# Altium footprint library DVI-I-V.PcbLib: 1 footprints
Each footprint in its own frame and in the unit in brackets; x right, y up, seen from the top. Pads: shape width x height; smd on the part's side, far side on the other; paste and mask are expansions set on the pad; w line width, h text height; cw(c..) or ccw(c..) is an arc to the next point about the centre after c.
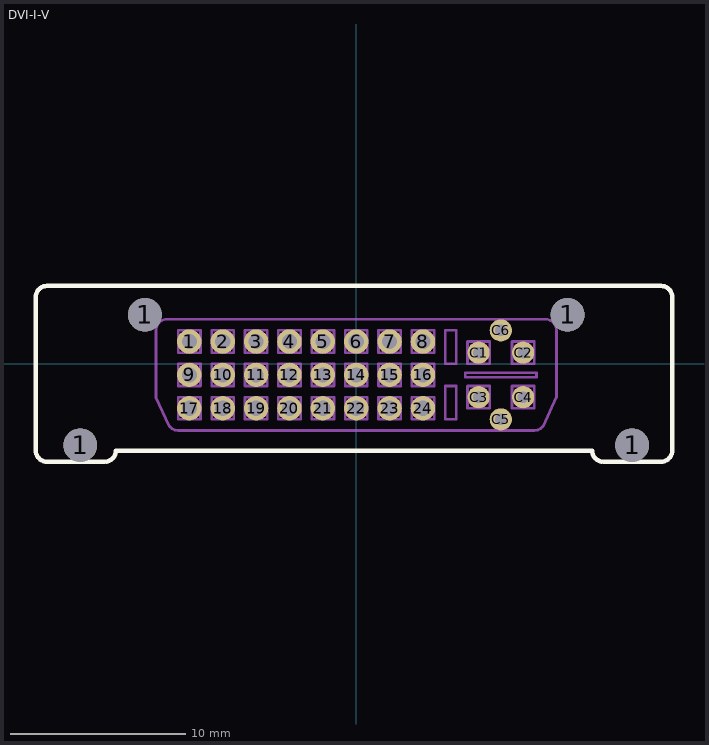
[diagram p0: the footprint, top view; thin cyan lines are the x and y axes]

## DVI-I-V [mil]
pads (34):
  round 76 hole 76: 1(-620,-183) 1(-475,110) 1(475,110) 1(620,-183)
  round 55 hole 34: 1(-375,50) 2(-300,50) 3(-225,50) 4(-150,50) 5(-75,50) 6(0,50) 7(75,50) 8(150,50) 9(-375,-25) 10(-300,-25) 11(-225,-25) 12(-150,-25) 13(-75,-25) 14(0,-25) 15(75,-25) 16(150,-25) 17(-375,-100) 18(-300,-100) 19(-225,-100) 20(-150,-100) 21(-75,-100) 22(0,-100) 23(75,-100) 24(150,-100)
  round 50 hole 26: C1(275,25) C2(375,25) C3(275,-75) C4(375,-75) C5(325,-125) C6(325,75)
Top Overlay:
  lines w10: -720,-195 -720,150 cw(c-695,150) -695,175 685,175 cw(c685,150) 710,150 710,-195 cw(c685,-195) 685,-220 555,-220 cw(c555,-195) 530,-195 -540,-195 cw(c-565,-195) -565,-220 -695,-220 cw(c-695,-195) -720,-195
Mechanical 16:
  lines w6: -450,-75 -450,75 cw(c-425,75) -425,100 425,100 cw(c425,75) 450,75 450,-75 420,-140 cw(c400,-125) 400,-150 -400,-150 cw(c-400,-125) -420,-140 -450,-75 ; -400,-125 -400,-75 -350,-75 -350,-125 -400,-125 ; -400,-50 -400,0 -350,0 -350,-50 -400,-50 ; -400,25 -400,75 -350,75 -350,25 -400,25 ; -325,-125 -325,-75 -275,-75 -275,-125 -325,-125 ; -325,-50 -325,0 -275,0 -275,-50 -325,-50 ; -325,25 -325,75 -275,75 -275,25 -325,25 ; -250,-125 -250,-75 -200,-75 -200,-125 -250,-125 ; -250,-50 -250,0 -200,0 -200,-50 -250,-50 ; -250,25 -250,75 -200,75 -200,25 -250,25 ; -175,-125 -175,-75 -125,-75 -125,-125 -175,-125 ; -175,-50 -175,0 -125,0 -125,-50 -175,-50 ; -175,25 -175,75 -125,75 -125,25 -175,25 ; -100,-125 -100,-75 -50,-75 -50,-125 -100,-125 ; -100,-50 -100,0 -50,0 -50,-50 -100,-50 ; -100,25 -100,75 -50,75 -50,25 -100,25 ; -25,-125 -25,-75 25,-75 25,-125 -25,-125 ; -25,-50 -25,0 25,0 25,-50 -25,-50 ; -25,25 -25,75 25,75 25,25 -25,25 ; 50,-125 50,-75 100,-75 100,-125 50,-125 ; 50,-50 50,0 100,0 100,-50 50,-50 ; 50,25 50,75 100,75 100,25 50,25 ; 125,-125 125,-75 175,-75 175,-125 125,-125 ; 125,-50 125,0 175,0 175,-50 125,-50 ; 125,25 125,75 175,75 175,25 125,25 ; 200,-125 225,-125 225,-50 200,-50 200,-125 ; 200,0 225,0 225,75 200,75 200,0 ; 245,-30 405,-30 405,-20 245,-20 245,-30 ; 250,-100 250,-50 300,-50 300,-100 250,-100 ; 250,0 250,50 300,50 300,0 250,0 ; 350,-100 350,-50 400,-50 400,-100 350,-100 ; 350,0 350,50 400,50 400,0 350,0